# Altium footprint library Capacitor.PcbLib: 24 footprints (part 2 of 2)
Each footprint in its own frame and in the unit in brackets; x right, y up, seen from the top. Pads: shape width x height; smd on the part's side, far side on the other; paste and mask are expansions set on the pad; w line width, h text height; cw(c..) or ccw(c..) is an arc to the next point about the centre after c.
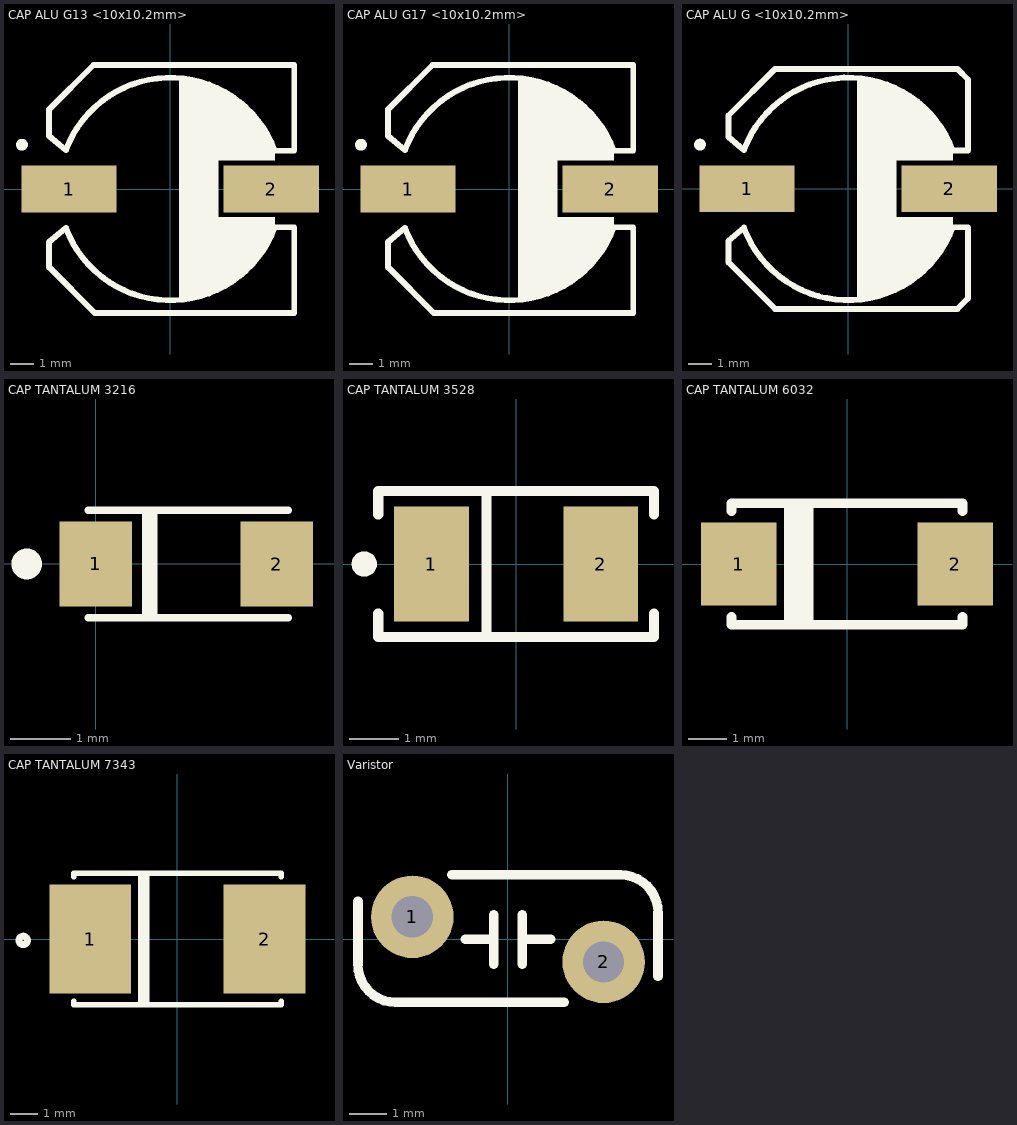
[diagram p1: the footprints below, top view; thin cyan lines are the x and y axes]

## CAP ALU G13 <10x10.2mm> [mm]
pads (2):
  rect 4.1x2 smd: 1(-4.35,0) 2(4.35,0)
Top Overlay:
  circle w0.254: c-6.375,1.905 r0.127
  region: 2.076,-1.216 4.493,-1.216 4.493,-1.646 4.189,-2.33 3.507,-3.225 2.725,-3.923 1.744,-4.543 0.381,-4.708 0.381,4.77 1.473,4.554 2.335,4.193 2.638,3.995 2.874,3.857 3.943,2.788 4.493,1.737 4.493,1.23 2.076,1.23
  lines w0.254: -5.207,-3.37 -5.207,-2.281 -4.488,-1.667 ccw(c0,0) 4.495,-1.646 5.334,-1.652 5.334,-5.334 -3.243,-5.334 -5.207,-3.37 ; -5.207,2.281 -5.207,3.429 -3.302,5.334 5.334,5.334 5.334,1.652 4.495,1.646 ccw(c0,0) -4.488,1.667 -5.207,2.281
3D body "CAP_ALU_G13.step": height 14.13, standoff 0.13, extent -6.15,-5.25 6.15,5.25

## CAP ALU G17 <10x10.2mm> [mm]
pads (2):
  rect 4.1x2 smd: 1(-4.35,0) 2(4.35,0)
Top Overlay:
  circle w0.254: c-6.375,1.905 r0.127
  region: 2.076,-1.216 4.493,-1.216 4.493,-1.646 4.189,-2.33 3.507,-3.225 2.725,-3.923 1.744,-4.543 0.381,-4.708 0.381,4.77 1.473,4.554 2.335,4.193 2.638,3.995 2.874,3.857 3.943,2.788 4.493,1.737 4.493,1.23 2.076,1.23
  lines w0.254: -5.207,-3.37 -3.243,-5.334 5.334,-5.334 5.334,-1.652 4.495,-1.646 cw(c0,0) -4.488,-1.667 -5.207,-2.281 -5.207,-3.37 ; -5.207,2.281 -4.488,1.667 cw(c0,0) 4.495,1.646 5.334,1.652 5.334,5.334 -3.302,5.334 -5.207,3.429 -5.207,2.281
3D body "CAP_ALU_G17.step": height 17.13, standoff 0.13, extent -6.15,-5.25 6.15,5.25

## CAP ALU G <10x10.2mm> [mm]
pads (2):
  rect 4.1x2 smd: 1(-4.35,0) 2(4.35,0)
Top Overlay:
  circle w0.254: c-6.375,1.905 r0.127
  region: 2.076,-1.216 4.493,-1.216 4.493,-1.646 4.189,-2.33 3.507,-3.225 2.725,-3.923 1.744,-4.543 0.381,-4.708 0.381,4.77 1.473,4.554 2.335,4.193 2.638,3.995 2.874,3.857 3.943,2.788 4.493,1.737 4.493,1.23 2.076,1.23
  lines w0.254: -5.15,-3.156 -3.15,-5.156 4.699,-5.156 5.15,-4.705 5.15,-1.651 4.495,-1.646 cw(c0,0) -4.488,-1.667 -5.15,-2.232 -5.15,-3.156 ; -5.15,2.232 -4.488,1.667 cw(c0,0) 4.495,1.646 5.15,1.651 5.15,4.705 4.705,5.15 -3.156,5.15 -5.15,3.156 -5.15,2.232
3D body "CAPAE1030X1050N-(G).stp": height 10.33, standoff 0.13, extent -5.85,-5.15 5.85,5.15

## CAP TANTALUM 3216 [mm]
pads (2):
  rect 1.2x1.4 smd: 1(0,0) 2(2.984,-0.002)
Top Overlay:
  circle w0.254: c-1.143,0 r0.127
  region: 0.762,0.888 0.762,-0.888 1.016,-0.891 1.016,0.888
  lines w0.127: -0.127,-0.889 3.175,-0.889 ; -0.127,0.889 3.175,0.889
3D body "User Library-EL_SMD_A.STEP": height 1.61, standoff -0.01, extent -0.1,-0.8 3.3,0.8

## CAP TANTALUM 3528 [mm]
pads (2):
  rect 1.5x2.3 smd: 1(-1.7,0) 2(1.7,0)
Top Overlay:
  circle w0.254: c-3.048,0 r0.127
  lines w0.203: -2.769,-0.99 -2.769,-1.465 2.769,-1.465 2.769,-0.99 ; -2.769,0.991 -2.769,1.465 2.769,1.465 2.769,0.991 ; -0.592,-1.465 -0.592,1.465
3D body "CAP_TANT_3528.step": height 2.03, standoff 0, extent -1.85,-1.465 1.85,1.465

## CAP TANTALUM 6032 [mm]
pads (2):
  rect 2x2.2 smd: 1(-2.857,0) 2(2.857,0)
Top Overlay:
  region: -1.651,1.587 -1.651,-1.587 -0.889,-1.587 -0.889,1.587
  lines w0.254: -3.048,-1.397 -3.048,-1.6 3.048,-1.6 3.048,-1.397 ; -3.048,1.397 -3.048,1.6 3.048,1.6 3.048,1.397
3D body "User Library-EL_SMD_C.STEP": height 2.51, standoff -0.01, extent -3.1,-1.6 3.1,1.6

## CAP TANTALUM 7343 [mm]
pads (2):
  rect 3x4 smd: 1(-3.2,0) 2(3.2,0)
Top Overlay:
  circle w0.254: c-5.664,-0.051 r0.155
  region: -1.448,2.413 -1.448,-2.413 -1.041,-2.413 -1.041,2.413 -1.422,2.413
  lines w0.203: -3.81,-2.286 -3.81,-2.413 0,-2.413 3.81,-2.413 3.81,-2.286 ; -3.81,2.286 -3.81,2.413 0,2.413 3.81,2.413 3.81,2.286
3D body "CAP_TANT_7343-40.step": height 3.99, standoff -0.01, extent -3.8,-2.3 3.8,2.3

## Varistor [mm]
pads (2):
  round 2.2 hole 1.1: 1(-2.55,0.6) 2(2.55,-0.6)
Top Overlay:
  lines w0.254: -3.999,1.02 -3.999,-0.68 ccw(c-3,-0.68) -3,-1.68 1.5,-1.68 ; -1.499,1.72 3.001,1.72 cw(c3.001,0.72) 4,0.72 4,-0.98 ; -1.143,0 -0.381,0 ; -0.381,-0.66 -0.381,0 ; -0.381,0.66 -0.381,0 ; 0.381,-0.66 0.381,0 ; 0.381,0.66 0.381,0 ; 1.143,0 0.381,0
3D body "07D431K.SLDPRT": height 12, standoff -1, extent -3.999,-1.68 4,1.72